# Altium schematic symbol library MCU_Cypress.SchLib: 36 symbols
Pins are listed as number, name and electrical type; pins without a type are passive.

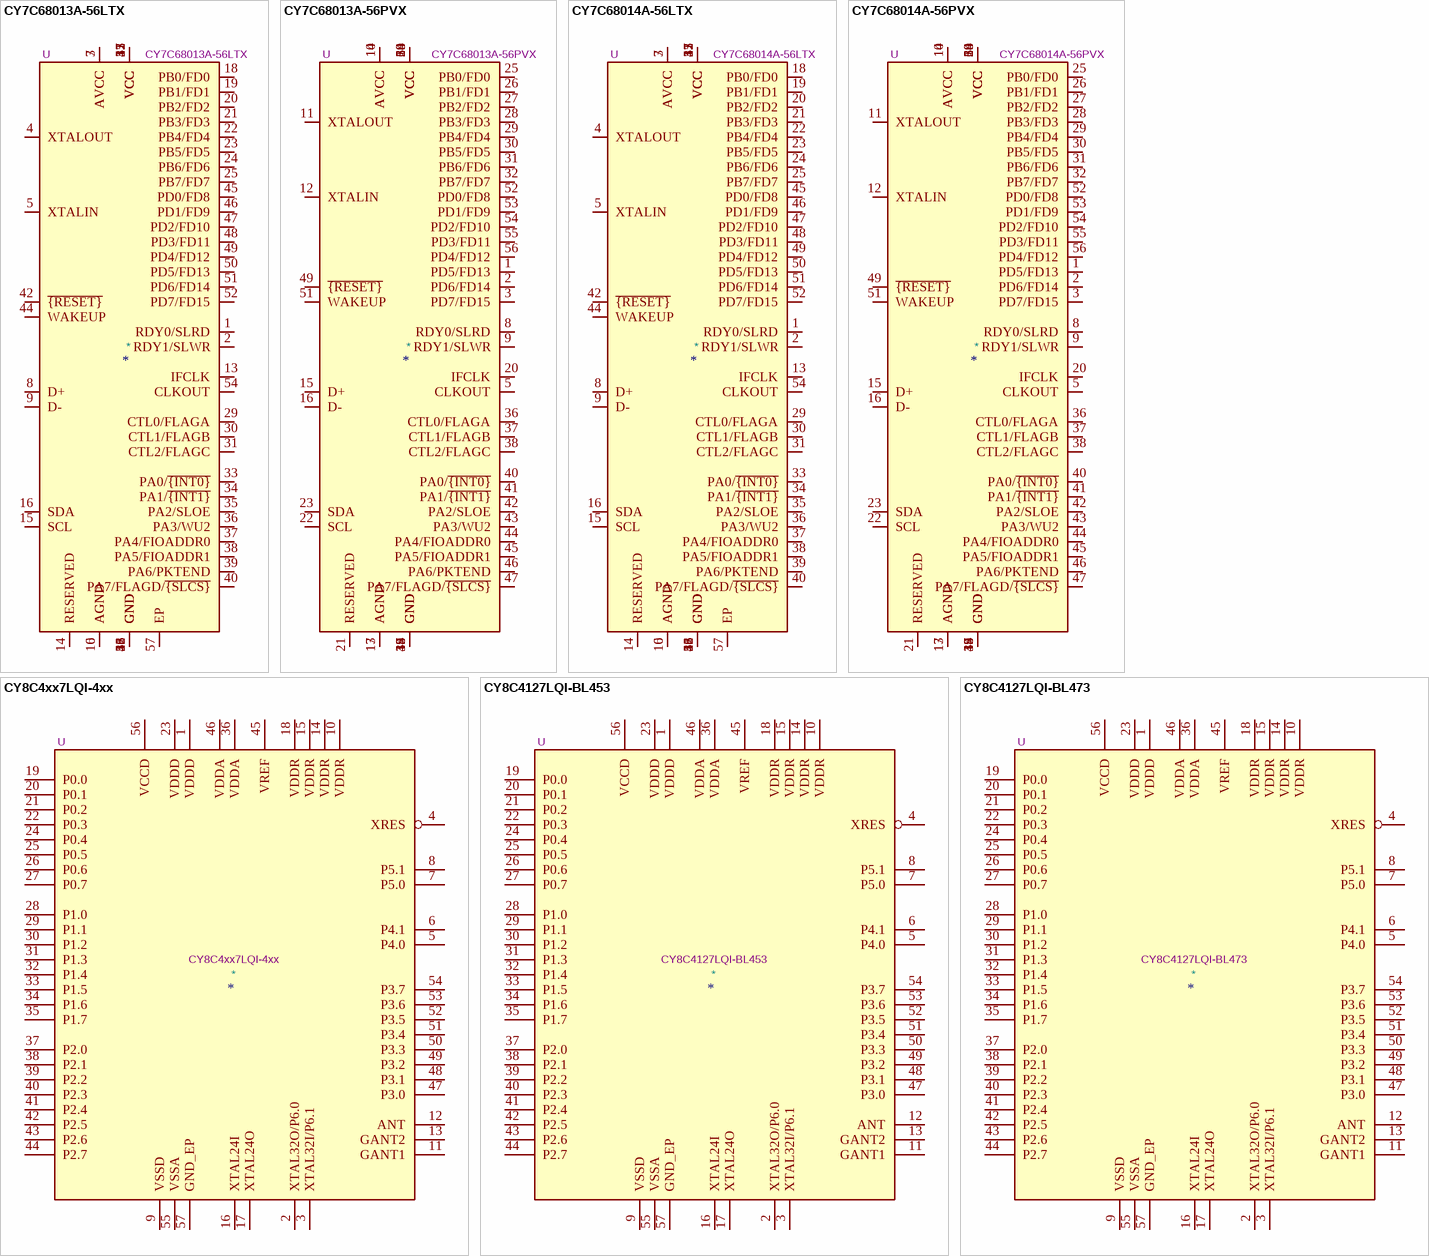
[diagram p0: symbols CY7C68013A-56LTX to CY8C4127LQI-BL473]

## CY7C68013A-56LTX
designator *  value CY7C68013A-56LTX  Reference: U
CYPRESS FX2LP USB Microcontroller, 48MHz 8051, 16KB RAM, USB 2.0, I2C, QFN-56; ki_keywords: FX2LP 8-bit USB MCU; ki_fp_filters: QFN*1EP*8x8mm*P0.5mm*; Footprint: Package_DFN_QFN:QFN-56-1EP_8x8mm_P0.5mm_EP4.5x5.2mm_ThermalVias_TopTented; Datasheet: http://www.cypress.com/file/138911/download; Description_: CYPRESS FX2LP USB Microcontroller, 48MHz 8051, 16KB RAM, USB 2.0, I2C, QFN-56
pins: 1 RDY0/SLRD, 2 RDY1/SLWR, 3 AVCC, 4 XTALOUT, 5 XTALIN, 6 AGND, 7 AVCC, 8 D+, 9 D-, 10 AGND, 11 VCC, 12 GND, 13 IFCLK, 14 RESERVED, 15 SCL, 16 SDA, 17 VCC, 18 PB0/FD0, 19 PB1/FD1, 20 PB2/FD2, 21 PB3/FD3, 22 PB4/FD4, 23 PB5/FD5, 24 PB6/FD6, 25 PB7/FD7, 26 GND, 27 VCC, 28 GND, 29 CTL0/FLAGA, 30 CTL1/FLAGB, 31 CTL2/FLAGC, 32 VCC, 33 PA0/~{{INT0}}, 34 PA1/~{{INT1}}, 35 PA2/SLOE, 36 PA3/WU2, 37 PA4/FIOADDR0, 38 PA5/FIOADDR1, 39 PA6/PKTEND, 40 PA7/FLAGD/~{{SLCS}}, 41 GND, 42 ~{{RESET}}, 43 VCC, 44 WAKEUP, 45 PD0/FD8, 46 PD1/FD9, 47 PD2/FD10, 48 PD3/FD11, 49 PD4/FD12, 50 PD5/FD13, 51 PD6/FD14, 52 PD7/FD15, 53 GND, 54 CLKOUT, 55 VCC, 56 GND, 57 EP

## CY7C68013A-56PVX
designator *  value CY7C68013A-56PVX  Reference: U
CYPRESS FX2LP USB Microcontroller, 48MHz 8051, 16KB RAM, USB 2.0, I2C, SSOP-56; ki_keywords: FX2LP 8-bit USB MCU; ki_fp_filters: SSOP*7.5x18.5mm*P0.635mm*; Footprint: Package_SO:SSOP-56_7.5x18.5mm_P0.635mm; Datasheet: http://www.cypress.com/file/138911/download; Description_: CYPRESS FX2LP USB Microcontroller, 48MHz 8051, 16KB RAM, USB 2.0, I2C, SSOP-56
pins: 1 PD5/FD13, 2 PD6/FD14, 3 PD7/FD15, 4 GND, 5 CLKOUT, 6 VCC, 7 GND, 8 RDY0/SLRD, 9 RDY1/SLWR, 10 AVCC, 11 XTALOUT, 12 XTALIN, 13 AGND, 14 AVCC, 15 D+, 16 D-, 17 AGND, 18 VCC, 19 GND, 20 IFCLK, 21 RESERVED, 22 SCL, 23 SDA, 24 VCC, 25 PB0/FD0, 26 PB1/FD1, 27 PB2/FD2, 28 PB3/FD3, 29 PB4/FD4, 30 PB5/FD5, 31 PB6/FD6, 32 PB7/FD7, 33 GND, 34 VCC, 35 GND, 36 CTL0/FLAGA, 37 CTL1/FLAGB, 38 CTL2/FLAGC, 39 VCC, 40 PA0/~{{INT0}}, 41 PA1/~{{INT1}}, 42 PA2/SLOE, 43 PA3/WU2, 44 PA4/FIOADDR0, 45 PA5/FIOADDR1, 46 PA6/PKTEND, 47 PA7/FLAGD/~{{SLCS}}, 48 GND, 49 ~{{RESET}}, 50 VCC, 51 WAKEUP, 52 PD0/FD8, 53 PD1/FD9, 54 PD2/FD10, 55 PD3/FD11, 56 PD4/FD12

## CY7C68014A-56LTX
designator *  value CY7C68014A-56LTX  Reference: U
CYPRESS FX2LP USB Microcontroller, 48MHz 8051, 16KB RAM, USB 2.0, I2C, QFN-56; ki_keywords: FX2LP 8-bit USB MCU; ki_fp_filters: QFN*1EP*8x8mm*P0.5mm*; Footprint: Package_DFN_QFN:QFN-56-1EP_8x8mm_P0.5mm_EP4.5x5.2mm_ThermalVias_TopTented; Datasheet: http://www.cypress.com/file/138911/download; Description_: CYPRESS FX2LP USB Microcontroller, 48MHz 8051, 16KB RAM, USB 2.0, I2C, QFN-56
pins: 1 RDY0/SLRD, 2 RDY1/SLWR, 3 AVCC, 4 XTALOUT, 5 XTALIN, 6 AGND, 7 AVCC, 8 D+, 9 D-, 10 AGND, 11 VCC, 12 GND, 13 IFCLK, 14 RESERVED, 15 SCL, 16 SDA, 17 VCC, 18 PB0/FD0, 19 PB1/FD1, 20 PB2/FD2, 21 PB3/FD3, 22 PB4/FD4, 23 PB5/FD5, 24 PB6/FD6, 25 PB7/FD7, 26 GND, 27 VCC, 28 GND, 29 CTL0/FLAGA, 30 CTL1/FLAGB, 31 CTL2/FLAGC, 32 VCC, 33 PA0/~{{INT0}}, 34 PA1/~{{INT1}}, 35 PA2/SLOE, 36 PA3/WU2, 37 PA4/FIOADDR0, 38 PA5/FIOADDR1, 39 PA6/PKTEND, 40 PA7/FLAGD/~{{SLCS}}, 41 GND, 42 ~{{RESET}}, 43 VCC, 44 WAKEUP, 45 PD0/FD8, 46 PD1/FD9, 47 PD2/FD10, 48 PD3/FD11, 49 PD4/FD12, 50 PD5/FD13, 51 PD6/FD14, 52 PD7/FD15, 53 GND, 54 CLKOUT, 55 VCC, 56 GND, 57 EP

## CY7C68014A-56PVX
designator *  value CY7C68014A-56PVX  Reference: U
CYPRESS FX2LP USB Microcontroller, 48MHz 8051, 16KB RAM, USB 2.0, I2C, SSOP-56; ki_keywords: FX2LP 8-bit USB MCU; ki_fp_filters: SSOP*7.5x18.5mm*P0.635mm*; Footprint: Package_SO:SSOP-56_7.5x18.5mm_P0.635mm; Datasheet: http://www.cypress.com/file/138911/download; Description_: CYPRESS FX2LP USB Microcontroller, 48MHz 8051, 16KB RAM, USB 2.0, I2C, SSOP-56
pins: 1 PD5/FD13, 2 PD6/FD14, 3 PD7/FD15, 4 GND, 5 CLKOUT, 6 VCC, 7 GND, 8 RDY0/SLRD, 9 RDY1/SLWR, 10 AVCC, 11 XTALOUT, 12 XTALIN, 13 AGND, 14 AVCC, 15 D+, 16 D-, 17 AGND, 18 VCC, 19 GND, 20 IFCLK, 21 RESERVED, 22 SCL, 23 SDA, 24 VCC, 25 PB0/FD0, 26 PB1/FD1, 27 PB2/FD2, 28 PB3/FD3, 29 PB4/FD4, 30 PB5/FD5, 31 PB6/FD6, 32 PB7/FD7, 33 GND, 34 VCC, 35 GND, 36 CTL0/FLAGA, 37 CTL1/FLAGB, 38 CTL2/FLAGC, 39 VCC, 40 PA0/~{{INT0}}, 41 PA1/~{{INT1}}, 42 PA2/SLOE, 43 PA3/WU2, 44 PA4/FIOADDR0, 45 PA5/FIOADDR1, 46 PA6/PKTEND, 47 PA7/FLAGD/~{{SLCS}}, 48 GND, 49 ~{{RESET}}, 50 VCC, 51 WAKEUP, 52 PD0/FD8, 53 PD1/FD9, 54 PD2/FD10, 55 PD3/FD11, 56 PD4/FD12

## CY8C4xx7LQI-4xx
designator *  value CY8C4xx7LQI-4xx  Reference: U
Programmable System-on-Chip With Bluetooth Low Energy, 24/48-MHz ARM® Cortex®-M0 , 56-QFN; ki_keywords: CYPRESS PSOC BLE CY8 CY8C4 ARM CORTEX M0 BLUETOOTH QFN; ki_fp_filters: QFN*1EP*7x7mm*P0.4mm*; Footprint: Package_DFN_QFN:QFN-56-1EP_7x7mm_P0.4mm_EP5.6x5.6mm; Datasheet: http://www.cypress.com/file/137466/download; Description_: Programmable System-on-Chip With Bluetooth Low Energy, 24/48-MHz ARM® Cortex®-M0 , 56-QFN
pins: 1 VDDD, 2 XTAL32O/P6.0, 3 XTAL32I/P6.1, 4 XRES, 5 P4.0, 6 P4.1, 7 P5.0, 8 P5.1, 9 VSSD, 10 VDDR, 11 GANT1, 12 ANT, 13 GANT2, 14 VDDR, 15 VDDR, 16 XTAL24I, 17 XTAL24O, 18 VDDR, 19 P0.0, 20 P0.1, 21 P0.2, 22 P0.3, 23 VDDD, 24 P0.4, 25 P0.5, 26 P0.6, 27 P0.7, 28 P1.0, 29 P1.1, 30 P1.2, 31 P1.3, 32 P1.4, 33 P1.5, 34 P1.6, 35 P1.7, 36 VDDA, 37 P2.0, 38 P2.1, 39 P2.2, 40 P2.3, 41 P2.4, 42 P2.5, 43 P2.6, 44 P2.7, 45 VREF, 46 VDDA, 47 P3.0, 48 P3.1, 49 P3.2, 50 P3.3, 51 P3.4, 52 P3.5, 53 P3.6, 54 P3.7, 55 VSSA, 56 VCCD, 57 GND_EP

## CY8C4127LQI-BL453
designator *  value CY8C4127LQI-BL453  Reference: U
56-QFN, 24-MHz ARM® Cortex®-M0, 128KB Flash, 16kB SRAM, NO UDB, CAP-SENSE W/O GESTURE, NO LCD DRIVE; ki_keywords: CYPRESS PSOC BLE CY8 CY8C4 ARM CORTEX M0 BLUETOOTH QFN; ki_fp_filters: QFN*1EP*7x7mm*P0.4mm*; Footprint: Package_DFN_QFN:QFN-56-1EP_7x7mm_P0.4mm_EP5.6x5.6mm; Datasheet: http://www.cypress.com/file/137466/download; Description_: 56-QFN, 24-MHz ARM® Cortex®-M0, 128KB Flash, 16kB SRAM, NO UDB, CAP-SENSE W/O GESTURE, NO LCD DRIVE
pins: 1 VDDD, 2 XTAL32O/P6.0, 3 XTAL32I/P6.1, 4 XRES, 5 P4.0, 6 P4.1, 7 P5.0, 8 P5.1, 9 VSSD, 10 VDDR, 11 GANT1, 12 ANT, 13 GANT2, 14 VDDR, 15 VDDR, 16 XTAL24I, 17 XTAL24O, 18 VDDR, 19 P0.0, 20 P0.1, 21 P0.2, 22 P0.3, 23 VDDD, 24 P0.4, 25 P0.5, 26 P0.6, 27 P0.7, 28 P1.0, 29 P1.1, 30 P1.2, 31 P1.3, 32 P1.4, 33 P1.5, 34 P1.6, 35 P1.7, 36 VDDA, 37 P2.0, 38 P2.1, 39 P2.2, 40 P2.3, 41 P2.4, 42 P2.5, 43 P2.6, 44 P2.7, 45 VREF, 46 VDDA, 47 P3.0, 48 P3.1, 49 P3.2, 50 P3.3, 51 P3.4, 52 P3.5, 53 P3.6, 54 P3.7, 55 VSSA, 56 VCCD, 57 GND_EP

## CY8C4127LQI-BL473
designator *  value CY8C4127LQI-BL473  Reference: U
56-QFN, 24-MHz ARM® Cortex®-M0, 128KB Flash, 16kB SRAM, NO UDB, NO CAP-SENSE, NO LCD DRIVE; ki_keywords: CYPRESS PSOC BLE CY8 CY8C4 ARM CORTEX M0 BLUETOOTH QFN; ki_fp_filters: QFN*1EP*7x7mm*P0.4mm*; Footprint: Package_DFN_QFN:QFN-56-1EP_7x7mm_P0.4mm_EP5.6x5.6mm; Datasheet: http://www.cypress.com/file/137466/download; Description_: 56-QFN, 24-MHz ARM® Cortex®-M0, 128KB Flash, 16kB SRAM, NO UDB, NO CAP-SENSE, NO LCD DRIVE
pins: 1 VDDD, 2 XTAL32O/P6.0, 3 XTAL32I/P6.1, 4 XRES, 5 P4.0, 6 P4.1, 7 P5.0, 8 P5.1, 9 VSSD, 10 VDDR, 11 GANT1, 12 ANT, 13 GANT2, 14 VDDR, 15 VDDR, 16 XTAL24I, 17 XTAL24O, 18 VDDR, 19 P0.0, 20 P0.1, 21 P0.2, 22 P0.3, 23 VDDD, 24 P0.4, 25 P0.5, 26 P0.6, 27 P0.7, 28 P1.0, 29 P1.1, 30 P1.2, 31 P1.3, 32 P1.4, 33 P1.5, 34 P1.6, 35 P1.7, 36 VDDA, 37 P2.0, 38 P2.1, 39 P2.2, 40 P2.3, 41 P2.4, 42 P2.5, 43 P2.6, 44 P2.7, 45 VREF, 46 VDDA, 47 P3.0, 48 P3.1, 49 P3.2, 50 P3.3, 51 P3.4, 52 P3.5, 53 P3.6, 54 P3.7, 55 VSSA, 56 VCCD, 57 GND_EP

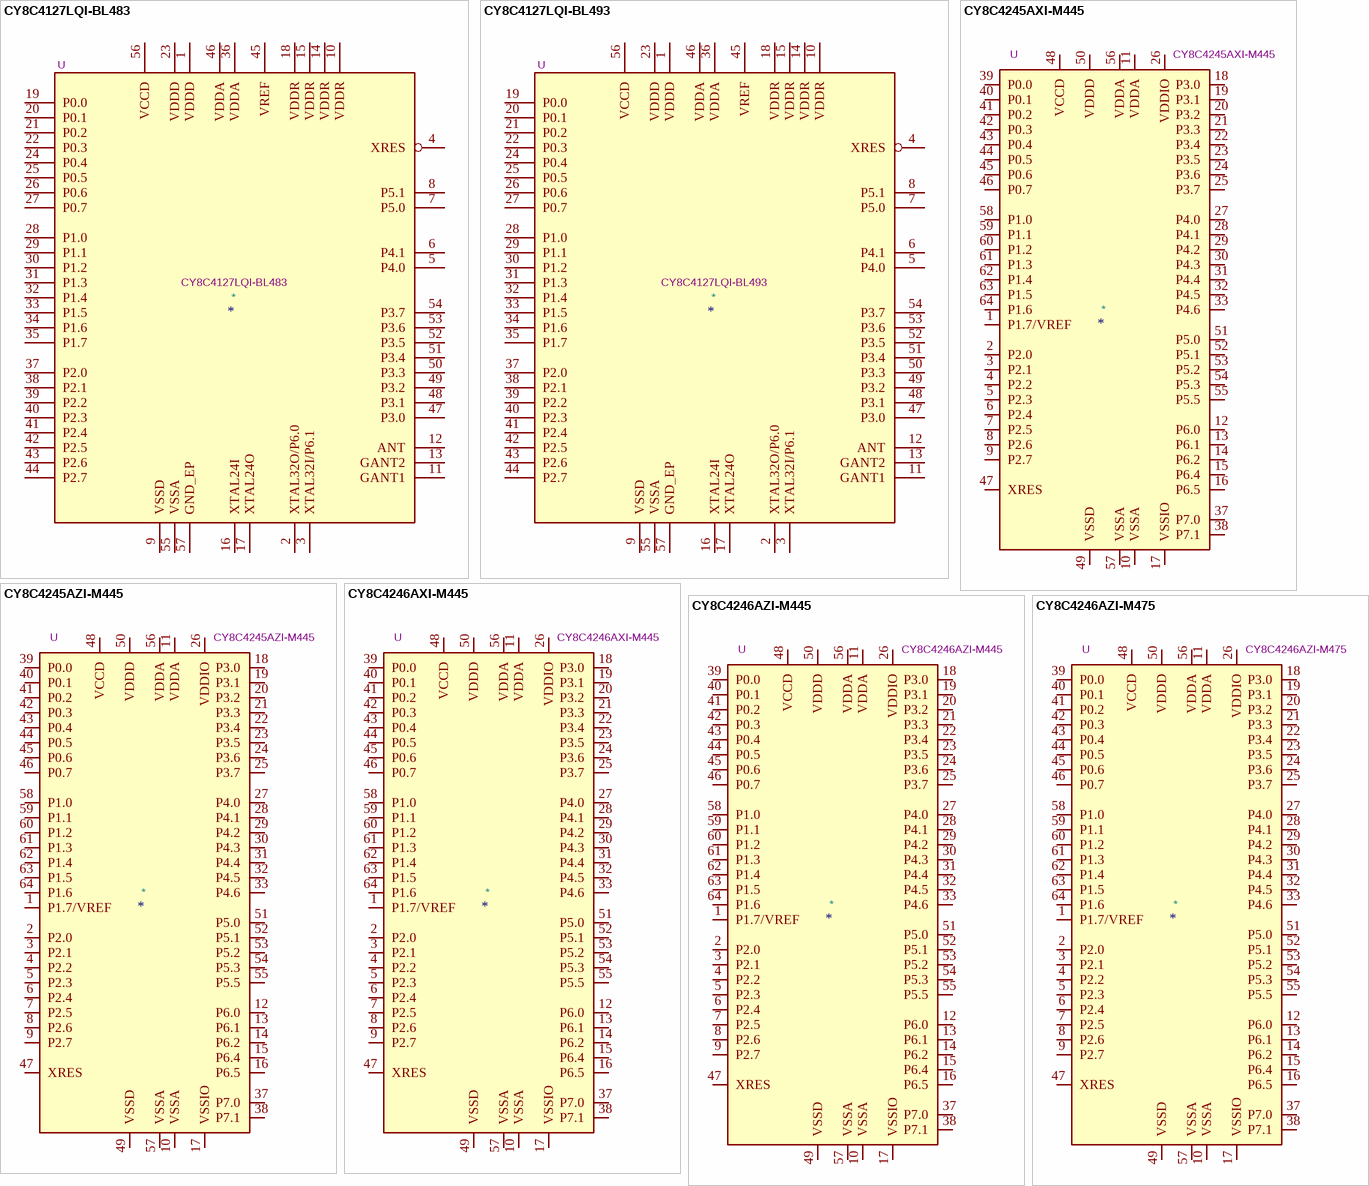
[diagram p1: symbols CY8C4127LQI-BL483 to CY8C4246AZI-M475]

## CY8C4127LQI-BL483
designator *  value CY8C4127LQI-BL483  Reference: U
56-QFN, 24-MHz ARM® Cortex®-M0, 128KB Flash, 16kB SRAM, NO UDB, CAP-SENSE W/O GESTURE, LCD DRIVE; ki_keywords: CYPRESS PSOC BLE CY8 CY8C4 ARM CORTEX M0 BLUETOOTH QFN; ki_fp_filters: QFN*1EP*7x7mm*P0.4mm*; Footprint: Package_DFN_QFN:QFN-56-1EP_7x7mm_P0.4mm_EP5.6x5.6mm; Datasheet: http://www.cypress.com/file/137466/download; Description_: 56-QFN, 24-MHz ARM® Cortex®-M0, 128KB Flash, 16kB SRAM, NO UDB, CAP-SENSE W/O GESTURE, LCD DRIVE
pins: 1 VDDD, 2 XTAL32O/P6.0, 3 XTAL32I/P6.1, 4 XRES, 5 P4.0, 6 P4.1, 7 P5.0, 8 P5.1, 9 VSSD, 10 VDDR, 11 GANT1, 12 ANT, 13 GANT2, 14 VDDR, 15 VDDR, 16 XTAL24I, 17 XTAL24O, 18 VDDR, 19 P0.0, 20 P0.1, 21 P0.2, 22 P0.3, 23 VDDD, 24 P0.4, 25 P0.5, 26 P0.6, 27 P0.7, 28 P1.0, 29 P1.1, 30 P1.2, 31 P1.3, 32 P1.4, 33 P1.5, 34 P1.6, 35 P1.7, 36 VDDA, 37 P2.0, 38 P2.1, 39 P2.2, 40 P2.3, 41 P2.4, 42 P2.5, 43 P2.6, 44 P2.7, 45 VREF, 46 VDDA, 47 P3.0, 48 P3.1, 49 P3.2, 50 P3.3, 51 P3.4, 52 P3.5, 53 P3.6, 54 P3.7, 55 VSSA, 56 VCCD, 57 GND_EP

## CY8C4127LQI-BL493
designator *  value CY8C4127LQI-BL493  Reference: U
56-QFN, 24-MHz ARM® Cortex®-M0, 128KB Flash, 16kB SRAM, NO UDB, CAP-SENSE W/ GESTURE, LCD DRIVE; ki_keywords: CYPRESS PSOC BLE CY8 CY8C4 ARM CORTEX M0 BLUETOOTH QFN; ki_fp_filters: QFN*1EP*7x7mm*P0.4mm*; Footprint: Package_DFN_QFN:QFN-56-1EP_7x7mm_P0.4mm_EP5.6x5.6mm; Datasheet: http://www.cypress.com/file/137466/download; Description_: 56-QFN, 24-MHz ARM® Cortex®-M0, 128KB Flash, 16kB SRAM, NO UDB, CAP-SENSE W/ GESTURE, LCD DRIVE
pins: 1 VDDD, 2 XTAL32O/P6.0, 3 XTAL32I/P6.1, 4 XRES, 5 P4.0, 6 P4.1, 7 P5.0, 8 P5.1, 9 VSSD, 10 VDDR, 11 GANT1, 12 ANT, 13 GANT2, 14 VDDR, 15 VDDR, 16 XTAL24I, 17 XTAL24O, 18 VDDR, 19 P0.0, 20 P0.1, 21 P0.2, 22 P0.3, 23 VDDD, 24 P0.4, 25 P0.5, 26 P0.6, 27 P0.7, 28 P1.0, 29 P1.1, 30 P1.2, 31 P1.3, 32 P1.4, 33 P1.5, 34 P1.6, 35 P1.7, 36 VDDA, 37 P2.0, 38 P2.1, 39 P2.2, 40 P2.3, 41 P2.4, 42 P2.5, 43 P2.6, 44 P2.7, 45 VREF, 46 VDDA, 47 P3.0, 48 P3.1, 49 P3.2, 50 P3.3, 51 P3.4, 52 P3.5, 53 P3.6, 54 P3.7, 55 VSSA, 56 VCCD, 57 GND_EP

## CY8C4245AXI-M445
designator *  value CY8C4245AXI-M445  Reference: U
PSoC 4200M series, 48MHz CPU, 32KB Flash, 4KB SRAM, 64-TQFP; ki_keywords: Cypress Microcontroller Arm CapSense LCD; ki_fp_filters: TQFP*14x14mm*P0.8mm*; Footprint: Package_QFP:TQFP-64_14x14mm_P0.8mm; Datasheet: https://www.cypress.com/file/139956/download; Description_: PSoC 4200M series, 48MHz CPU, 32KB Flash, 4KB SRAM, 64-TQFP
pins: 1 P1.7/VREF, 2 P2.0, 3 P2.1, 4 P2.2, 5 P2.3, 6 P2.4, 7 P2.5, 8 P2.6, 9 P2.7, 10 VSSA, 11 VDDA, 12 P6.0, 13 P6.1, 14 P6.2, 15 P6.4, 16 P6.5, 17 VSSIO, 18 P3.0, 19 P3.1, 20 P3.2, 21 P3.3, 22 P3.4, 23 P3.5, 24 P3.6, 25 P3.7, 26 VDDIO, 27 P4.0, 28 P4.1, 29 P4.2, 30 P4.3, 31 P4.4, 32 P4.5, 33 P4.6, 37 P7.0, 38 P7.1, 39 P0.0, 40 P0.1, 41 P0.2, 42 P0.3, 43 P0.4, 44 P0.5, 45 P0.6, 46 P0.7, 47 XRES, 48 VCCD, 49 VSSD, 50 VDDD, 51 P5.0, 52 P5.1, 53 P5.2, 54 P5.3, 55 P5.5, 56 VDDA, 57 VSSA, 58 P1.0, 59 P1.1, 60 P1.2, 61 P1.3, 62 P1.4, 63 P1.5, 64 P1.6

## CY8C4245AZI-M445
designator *  value CY8C4245AZI-M445  Reference: U
PSoC 4200M series, 48MHz CPU, 32KB Flash, 4KB SRAM, 64-TQFP; ki_keywords: Cypress Microcontroller Arm CapSense LCD; ki_fp_filters: TQFP*10x10mm*P0.5mm*; Footprint: Package_QFP:TQFP-64_10x10mm_P0.5mm; Datasheet: https://www.cypress.com/file/139956/download; Description_: PSoC 4200M series, 48MHz CPU, 32KB Flash, 4KB SRAM, 64-TQFP
pins: 1 P1.7/VREF, 2 P2.0, 3 P2.1, 4 P2.2, 5 P2.3, 6 P2.4, 7 P2.5, 8 P2.6, 9 P2.7, 10 VSSA, 11 VDDA, 12 P6.0, 13 P6.1, 14 P6.2, 15 P6.4, 16 P6.5, 17 VSSIO, 18 P3.0, 19 P3.1, 20 P3.2, 21 P3.3, 22 P3.4, 23 P3.5, 24 P3.6, 25 P3.7, 26 VDDIO, 27 P4.0, 28 P4.1, 29 P4.2, 30 P4.3, 31 P4.4, 32 P4.5, 33 P4.6, 37 P7.0, 38 P7.1, 39 P0.0, 40 P0.1, 41 P0.2, 42 P0.3, 43 P0.4, 44 P0.5, 45 P0.6, 46 P0.7, 47 XRES, 48 VCCD, 49 VSSD, 50 VDDD, 51 P5.0, 52 P5.1, 53 P5.2, 54 P5.3, 55 P5.5, 56 VDDA, 57 VSSA, 58 P1.0, 59 P1.1, 60 P1.2, 61 P1.3, 62 P1.4, 63 P1.5, 64 P1.6

## CY8C4246AXI-M445
designator *  value CY8C4246AXI-M445  Reference: U
PSoC 4200M series, 48MHz CPU, 64KB Flash, 8KB SRAM, 64-TQFP; ki_keywords: Cypress Microcontroller Arm CapSense LCD; ki_fp_filters: TQFP*14x14mm*P0.8mm*; Footprint: Package_QFP:TQFP-64_14x14mm_P0.8mm; Datasheet: https://www.cypress.com/file/139956/download; Description_: PSoC 4200M series, 48MHz CPU, 64KB Flash, 8KB SRAM, 64-TQFP
pins: 1 P1.7/VREF, 2 P2.0, 3 P2.1, 4 P2.2, 5 P2.3, 6 P2.4, 7 P2.5, 8 P2.6, 9 P2.7, 10 VSSA, 11 VDDA, 12 P6.0, 13 P6.1, 14 P6.2, 15 P6.4, 16 P6.5, 17 VSSIO, 18 P3.0, 19 P3.1, 20 P3.2, 21 P3.3, 22 P3.4, 23 P3.5, 24 P3.6, 25 P3.7, 26 VDDIO, 27 P4.0, 28 P4.1, 29 P4.2, 30 P4.3, 31 P4.4, 32 P4.5, 33 P4.6, 37 P7.0, 38 P7.1, 39 P0.0, 40 P0.1, 41 P0.2, 42 P0.3, 43 P0.4, 44 P0.5, 45 P0.6, 46 P0.7, 47 XRES, 48 VCCD, 49 VSSD, 50 VDDD, 51 P5.0, 52 P5.1, 53 P5.2, 54 P5.3, 55 P5.5, 56 VDDA, 57 VSSA, 58 P1.0, 59 P1.1, 60 P1.2, 61 P1.3, 62 P1.4, 63 P1.5, 64 P1.6

## CY8C4246AZI-M445
designator *  value CY8C4246AZI-M445  Reference: U
PSoC 4200M series, 48MHz CPU, 64KB Flash, 8KB SRAM, 64-TQFP; ki_keywords: Cypress Microcontroller Arm CapSense LCD; ki_fp_filters: TQFP*10x10mm*P0.5mm*; Footprint: Package_QFP:TQFP-64_10x10mm_P0.5mm; Datasheet: https://www.cypress.com/file/139956/download; Description_: PSoC 4200M series, 48MHz CPU, 64KB Flash, 8KB SRAM, 64-TQFP
pins: 1 P1.7/VREF, 2 P2.0, 3 P2.1, 4 P2.2, 5 P2.3, 6 P2.4, 7 P2.5, 8 P2.6, 9 P2.7, 10 VSSA, 11 VDDA, 12 P6.0, 13 P6.1, 14 P6.2, 15 P6.4, 16 P6.5, 17 VSSIO, 18 P3.0, 19 P3.1, 20 P3.2, 21 P3.3, 22 P3.4, 23 P3.5, 24 P3.6, 25 P3.7, 26 VDDIO, 27 P4.0, 28 P4.1, 29 P4.2, 30 P4.3, 31 P4.4, 32 P4.5, 33 P4.6, 37 P7.0, 38 P7.1, 39 P0.0, 40 P0.1, 41 P0.2, 42 P0.3, 43 P0.4, 44 P0.5, 45 P0.6, 46 P0.7, 47 XRES, 48 VCCD, 49 VSSD, 50 VDDD, 51 P5.0, 52 P5.1, 53 P5.2, 54 P5.3, 55 P5.5, 56 VDDA, 57 VSSA, 58 P1.0, 59 P1.1, 60 P1.2, 61 P1.3, 62 P1.4, 63 P1.5, 64 P1.6

## CY8C4246AZI-M475
designator *  value CY8C4246AZI-M475  Reference: U
PSoC 4200M series, 48MHz CPU, 64KB Flash, 8KB SRAM, 64-TQFP; ki_keywords: Cypress Microcontroller Arm IDAC; ki_fp_filters: TQFP*10x10mm*P0.5mm*; Footprint: Package_QFP:TQFP-64_10x10mm_P0.5mm; Datasheet: https://www.cypress.com/file/139956/download; Description_: PSoC 4200M series, 48MHz CPU, 64KB Flash, 8KB SRAM, 64-TQFP
pins: 1 P1.7/VREF, 2 P2.0, 3 P2.1, 4 P2.2, 5 P2.3, 6 P2.4, 7 P2.5, 8 P2.6, 9 P2.7, 10 VSSA, 11 VDDA, 12 P6.0, 13 P6.1, 14 P6.2, 15 P6.4, 16 P6.5, 17 VSSIO, 18 P3.0, 19 P3.1, 20 P3.2, 21 P3.3, 22 P3.4, 23 P3.5, 24 P3.6, 25 P3.7, 26 VDDIO, 27 P4.0, 28 P4.1, 29 P4.2, 30 P4.3, 31 P4.4, 32 P4.5, 33 P4.6, 37 P7.0, 38 P7.1, 39 P0.0, 40 P0.1, 41 P0.2, 42 P0.3, 43 P0.4, 44 P0.5, 45 P0.6, 46 P0.7, 47 XRES, 48 VCCD, 49 VSSD, 50 VDDD, 51 P5.0, 52 P5.1, 53 P5.2, 54 P5.3, 55 P5.5, 56 VDDA, 57 VSSA, 58 P1.0, 59 P1.1, 60 P1.2, 61 P1.3, 62 P1.4, 63 P1.5, 64 P1.6

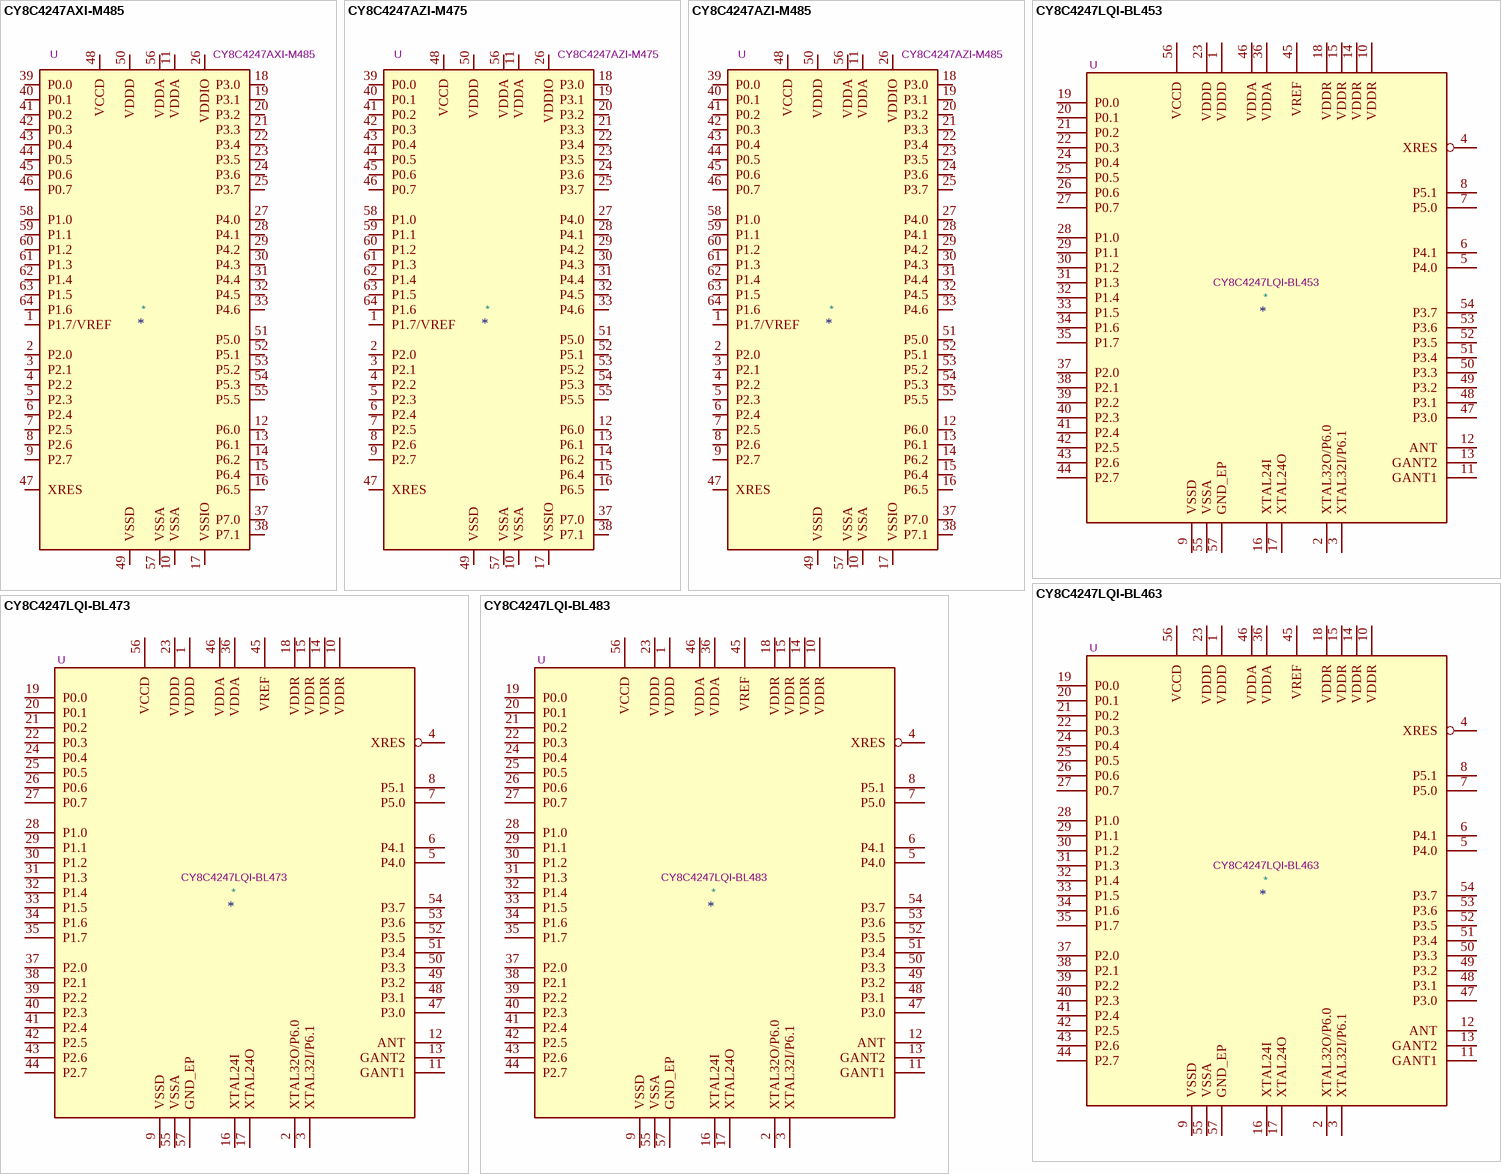
[diagram p2: symbols CY8C4247AXI-M485 to CY8C4247LQI-BL483]

## CY8C4247AXI-M485
designator *  value CY8C4247AXI-M485  Reference: U
PSoC 4200M series, 48MHz CPU, 128KB Flash, 16KB SRAM, 64-TQFP; ki_keywords: Cypress Microcontroller Arm CapSense IDAC LCD CAN; ki_fp_filters: TQFP*14x14mm*P0.8mm*; Footprint: Package_QFP:TQFP-64_14x14mm_P0.8mm; Datasheet: https://www.cypress.com/file/139956/download; Description_: PSoC 4200M series, 48MHz CPU, 128KB Flash, 16KB SRAM, 64-TQFP
pins: 1 P1.7/VREF, 2 P2.0, 3 P2.1, 4 P2.2, 5 P2.3, 6 P2.4, 7 P2.5, 8 P2.6, 9 P2.7, 10 VSSA, 11 VDDA, 12 P6.0, 13 P6.1, 14 P6.2, 15 P6.4, 16 P6.5, 17 VSSIO, 18 P3.0, 19 P3.1, 20 P3.2, 21 P3.3, 22 P3.4, 23 P3.5, 24 P3.6, 25 P3.7, 26 VDDIO, 27 P4.0, 28 P4.1, 29 P4.2, 30 P4.3, 31 P4.4, 32 P4.5, 33 P4.6, 37 P7.0, 38 P7.1, 39 P0.0, 40 P0.1, 41 P0.2, 42 P0.3, 43 P0.4, 44 P0.5, 45 P0.6, 46 P0.7, 47 XRES, 48 VCCD, 49 VSSD, 50 VDDD, 51 P5.0, 52 P5.1, 53 P5.2, 54 P5.3, 55 P5.5, 56 VDDA, 57 VSSA, 58 P1.0, 59 P1.1, 60 P1.2, 61 P1.3, 62 P1.4, 63 P1.5, 64 P1.6

## CY8C4247AZI-M475
designator *  value CY8C4247AZI-M475  Reference: U
PSoC 4200M series, 48MHz CPU, 128KB Flash, 16KB SRAM, 64-TQFP; ki_keywords: Cypress Microcontroller Arm IDAC; ki_fp_filters: TQFP*10x10mm*P0.5mm*; Footprint: Package_QFP:TQFP-64_10x10mm_P0.5mm; Datasheet: https://www.cypress.com/file/139956/download; Description_: PSoC 4200M series, 48MHz CPU, 128KB Flash, 16KB SRAM, 64-TQFP
pins: 1 P1.7/VREF, 2 P2.0, 3 P2.1, 4 P2.2, 5 P2.3, 6 P2.4, 7 P2.5, 8 P2.6, 9 P2.7, 10 VSSA, 11 VDDA, 12 P6.0, 13 P6.1, 14 P6.2, 15 P6.4, 16 P6.5, 17 VSSIO, 18 P3.0, 19 P3.1, 20 P3.2, 21 P3.3, 22 P3.4, 23 P3.5, 24 P3.6, 25 P3.7, 26 VDDIO, 27 P4.0, 28 P4.1, 29 P4.2, 30 P4.3, 31 P4.4, 32 P4.5, 33 P4.6, 37 P7.0, 38 P7.1, 39 P0.0, 40 P0.1, 41 P0.2, 42 P0.3, 43 P0.4, 44 P0.5, 45 P0.6, 46 P0.7, 47 XRES, 48 VCCD, 49 VSSD, 50 VDDD, 51 P5.0, 52 P5.1, 53 P5.2, 54 P5.3, 55 P5.5, 56 VDDA, 57 VSSA, 58 P1.0, 59 P1.1, 60 P1.2, 61 P1.3, 62 P1.4, 63 P1.5, 64 P1.6

## CY8C4247AZI-M485
designator *  value CY8C4247AZI-M485  Reference: U
PSoC 4200M series, 48MHz CPU, 128KB Flash, 16KB SRAM, 64-TQFP; ki_keywords: Cypress Microcontroller Arm CapSense IDAC LCD CAN; ki_fp_filters: TQFP*10x10mm*P0.5mm*; Footprint: Package_QFP:TQFP-64_10x10mm_P0.5mm; Datasheet: https://www.cypress.com/file/139956/download; Description_: PSoC 4200M series, 48MHz CPU, 128KB Flash, 16KB SRAM, 64-TQFP
pins: 1 P1.7/VREF, 2 P2.0, 3 P2.1, 4 P2.2, 5 P2.3, 6 P2.4, 7 P2.5, 8 P2.6, 9 P2.7, 10 VSSA, 11 VDDA, 12 P6.0, 13 P6.1, 14 P6.2, 15 P6.4, 16 P6.5, 17 VSSIO, 18 P3.0, 19 P3.1, 20 P3.2, 21 P3.3, 22 P3.4, 23 P3.5, 24 P3.6, 25 P3.7, 26 VDDIO, 27 P4.0, 28 P4.1, 29 P4.2, 30 P4.3, 31 P4.4, 32 P4.5, 33 P4.6, 37 P7.0, 38 P7.1, 39 P0.0, 40 P0.1, 41 P0.2, 42 P0.3, 43 P0.4, 44 P0.5, 45 P0.6, 46 P0.7, 47 XRES, 48 VCCD, 49 VSSD, 50 VDDD, 51 P5.0, 52 P5.1, 53 P5.2, 54 P5.3, 55 P5.5, 56 VDDA, 57 VSSA, 58 P1.0, 59 P1.1, 60 P1.2, 61 P1.3, 62 P1.4, 63 P1.5, 64 P1.6

## CY8C4247LQI-BL453
designator *  value CY8C4247LQI-BL453  Reference: U
56-QFN, 48-MHz ARM® Cortex®-M0, 128KB Flash, 16kB SRAM, 4 UDB, CAP-SENSE W/O GESTURE, NO LCD DRIVE; ki_keywords: CYPRESS PSOC BLE CY8 CY8C4 ARM CORTEX M0 BLUETOOTH QFN; ki_fp_filters: QFN*1EP*7x7mm*P0.4mm*; Footprint: Package_DFN_QFN:QFN-56-1EP_7x7mm_P0.4mm_EP5.6x5.6mm; Datasheet: http://www.cypress.com/file/137466/download; Description_: 56-QFN, 48-MHz ARM® Cortex®-M0, 128KB Flash, 16kB SRAM, 4 UDB, CAP-SENSE W/O GESTURE, NO LCD DRIVE
pins: 1 VDDD, 2 XTAL32O/P6.0, 3 XTAL32I/P6.1, 4 XRES, 5 P4.0, 6 P4.1, 7 P5.0, 8 P5.1, 9 VSSD, 10 VDDR, 11 GANT1, 12 ANT, 13 GANT2, 14 VDDR, 15 VDDR, 16 XTAL24I, 17 XTAL24O, 18 VDDR, 19 P0.0, 20 P0.1, 21 P0.2, 22 P0.3, 23 VDDD, 24 P0.4, 25 P0.5, 26 P0.6, 27 P0.7, 28 P1.0, 29 P1.1, 30 P1.2, 31 P1.3, 32 P1.4, 33 P1.5, 34 P1.6, 35 P1.7, 36 VDDA, 37 P2.0, 38 P2.1, 39 P2.2, 40 P2.3, 41 P2.4, 42 P2.5, 43 P2.6, 44 P2.7, 45 VREF, 46 VDDA, 47 P3.0, 48 P3.1, 49 P3.2, 50 P3.3, 51 P3.4, 52 P3.5, 53 P3.6, 54 P3.7, 55 VSSA, 56 VCCD, 57 GND_EP

## CY8C4247LQI-BL463
designator *  value CY8C4247LQI-BL463  Reference: U
56-QFN, 48-MHz ARM® Cortex®-M0, 128KB Flash, 16kB SRAM, 4 UDB, NO CAP-SENSE, LCD DRIVE; ki_keywords: CYPRESS PSOC BLE CY8 CY8C4 ARM CORTEX M0 BLUETOOTH QFN; ki_fp_filters: QFN*1EP*7x7mm*P0.4mm*; Footprint: Package_DFN_QFN:QFN-56-1EP_7x7mm_P0.4mm_EP5.6x5.6mm; Datasheet: http://www.cypress.com/file/137466/download; Description_: 56-QFN, 48-MHz ARM® Cortex®-M0, 128KB Flash, 16kB SRAM, 4 UDB, NO CAP-SENSE, LCD DRIVE
pins: 1 VDDD, 2 XTAL32O/P6.0, 3 XTAL32I/P6.1, 4 XRES, 5 P4.0, 6 P4.1, 7 P5.0, 8 P5.1, 9 VSSD, 10 VDDR, 11 GANT1, 12 ANT, 13 GANT2, 14 VDDR, 15 VDDR, 16 XTAL24I, 17 XTAL24O, 18 VDDR, 19 P0.0, 20 P0.1, 21 P0.2, 22 P0.3, 23 VDDD, 24 P0.4, 25 P0.5, 26 P0.6, 27 P0.7, 28 P1.0, 29 P1.1, 30 P1.2, 31 P1.3, 32 P1.4, 33 P1.5, 34 P1.6, 35 P1.7, 36 VDDA, 37 P2.0, 38 P2.1, 39 P2.2, 40 P2.3, 41 P2.4, 42 P2.5, 43 P2.6, 44 P2.7, 45 VREF, 46 VDDA, 47 P3.0, 48 P3.1, 49 P3.2, 50 P3.3, 51 P3.4, 52 P3.5, 53 P3.6, 54 P3.7, 55 VSSA, 56 VCCD, 57 GND_EP

## CY8C4247LQI-BL473
designator *  value CY8C4247LQI-BL473  Reference: U
56-QFN, 48-MHz ARM® Cortex®-M0, 128KB Flash, 16kB SRAM, 4 UDB, NO CAP-SENSE, NO LCD DRIVE; ki_keywords: CYPRESS PSOC BLE CY8 CY8C4 ARM CORTEX M0 BLUETOOTH QFN; ki_fp_filters: QFN*1EP*7x7mm*P0.4mm*; Footprint: Package_DFN_QFN:QFN-56-1EP_7x7mm_P0.4mm_EP5.6x5.6mm; Datasheet: http://www.cypress.com/file/137466/download; Description_: 56-QFN, 48-MHz ARM® Cortex®-M0, 128KB Flash, 16kB SRAM, 4 UDB, NO CAP-SENSE, NO LCD DRIVE
pins: 1 VDDD, 2 XTAL32O/P6.0, 3 XTAL32I/P6.1, 4 XRES, 5 P4.0, 6 P4.1, 7 P5.0, 8 P5.1, 9 VSSD, 10 VDDR, 11 GANT1, 12 ANT, 13 GANT2, 14 VDDR, 15 VDDR, 16 XTAL24I, 17 XTAL24O, 18 VDDR, 19 P0.0, 20 P0.1, 21 P0.2, 22 P0.3, 23 VDDD, 24 P0.4, 25 P0.5, 26 P0.6, 27 P0.7, 28 P1.0, 29 P1.1, 30 P1.2, 31 P1.3, 32 P1.4, 33 P1.5, 34 P1.6, 35 P1.7, 36 VDDA, 37 P2.0, 38 P2.1, 39 P2.2, 40 P2.3, 41 P2.4, 42 P2.5, 43 P2.6, 44 P2.7, 45 VREF, 46 VDDA, 47 P3.0, 48 P3.1, 49 P3.2, 50 P3.3, 51 P3.4, 52 P3.5, 53 P3.6, 54 P3.7, 55 VSSA, 56 VCCD, 57 GND_EP

## CY8C4247LQI-BL483
designator *  value CY8C4247LQI-BL483  Reference: U
56-QFN, 48-MHz ARM® Cortex®-M0, 128KB Flash, 16kB SRAM, 4 UDB, CAP-SENSE W/O GESTURES, LCD DRIVE; ki_keywords: CYPRESS PSOC BLE CY8 CY8C4 ARM CORTEX M0 BLUETOOTH QFN; ki_fp_filters: QFN*1EP*7x7mm*P0.4mm*; Footprint: Package_DFN_QFN:QFN-56-1EP_7x7mm_P0.4mm_EP5.6x5.6mm; Datasheet: http://www.cypress.com/file/137466/download; Description_: 56-QFN, 48-MHz ARM® Cortex®-M0, 128KB Flash, 16kB SRAM, 4 UDB, CAP-SENSE W/O GESTURES, LCD DRIVE
pins: 1 VDDD, 2 XTAL32O/P6.0, 3 XTAL32I/P6.1, 4 XRES, 5 P4.0, 6 P4.1, 7 P5.0, 8 P5.1, 9 VSSD, 10 VDDR, 11 GANT1, 12 ANT, 13 GANT2, 14 VDDR, 15 VDDR, 16 XTAL24I, 17 XTAL24O, 18 VDDR, 19 P0.0, 20 P0.1, 21 P0.2, 22 P0.3, 23 VDDD, 24 P0.4, 25 P0.5, 26 P0.6, 27 P0.7, 28 P1.0, 29 P1.1, 30 P1.2, 31 P1.3, 32 P1.4, 33 P1.5, 34 P1.6, 35 P1.7, 36 VDDA, 37 P2.0, 38 P2.1, 39 P2.2, 40 P2.3, 41 P2.4, 42 P2.5, 43 P2.6, 44 P2.7, 45 VREF, 46 VDDA, 47 P3.0, 48 P3.1, 49 P3.2, 50 P3.3, 51 P3.4, 52 P3.5, 53 P3.6, 54 P3.7, 55 VSSA, 56 VCCD, 57 GND_EP

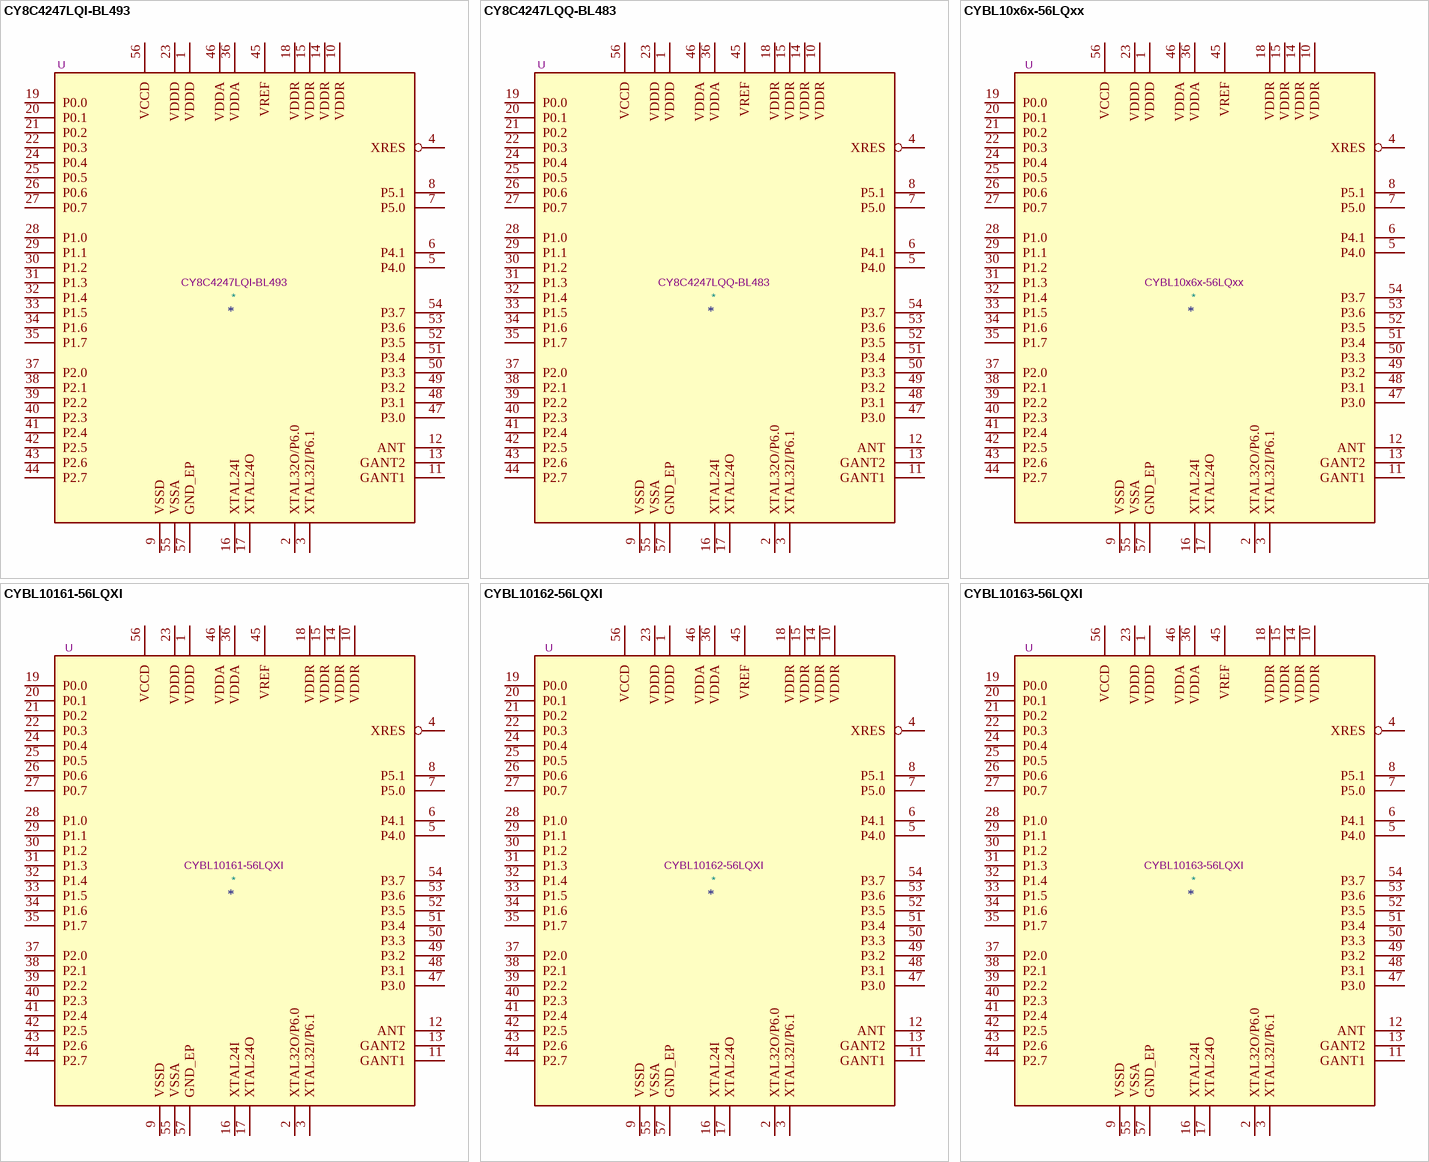
[diagram p3: symbols CY8C4247LQI-BL493 to CYBL10163-56LQXI]

## CY8C4247LQI-BL493
designator *  value CY8C4247LQI-BL493  Reference: U
56-QFN, 48-MHz ARM® Cortex®-M0, 128KB Flash, 16kB SRAM, NO UDB, CAP-SENSE W/ GESTURE, LCD DRIVE; ki_keywords: CYPRESS PSOC BLE CY8 CY8C4 ARM CORTEX M0 BLUETOOTH QFN; ki_fp_filters: QFN*1EP*7x7mm*P0.4mm*; Footprint: Package_DFN_QFN:QFN-56-1EP_7x7mm_P0.4mm_EP5.6x5.6mm; Datasheet: http://www.cypress.com/file/137466/download; Description_: 56-QFN, 48-MHz ARM® Cortex®-M0, 128KB Flash, 16kB SRAM, NO UDB, CAP-SENSE W/ GESTURE, LCD DRIVE
pins: 1 VDDD, 2 XTAL32O/P6.0, 3 XTAL32I/P6.1, 4 XRES, 5 P4.0, 6 P4.1, 7 P5.0, 8 P5.1, 9 VSSD, 10 VDDR, 11 GANT1, 12 ANT, 13 GANT2, 14 VDDR, 15 VDDR, 16 XTAL24I, 17 XTAL24O, 18 VDDR, 19 P0.0, 20 P0.1, 21 P0.2, 22 P0.3, 23 VDDD, 24 P0.4, 25 P0.5, 26 P0.6, 27 P0.7, 28 P1.0, 29 P1.1, 30 P1.2, 31 P1.3, 32 P1.4, 33 P1.5, 34 P1.6, 35 P1.7, 36 VDDA, 37 P2.0, 38 P2.1, 39 P2.2, 40 P2.3, 41 P2.4, 42 P2.5, 43 P2.6, 44 P2.7, 45 VREF, 46 VDDA, 47 P3.0, 48 P3.1, 49 P3.2, 50 P3.3, 51 P3.4, 52 P3.5, 53 P3.6, 54 P3.7, 55 VSSA, 56 VCCD, 57 GND_EP

## CY8C4247LQQ-BL483
designator *  value CY8C4247LQQ-BL483  Reference: U
ENGR_SAMPLE,  56-QFN, 48-MHz ARM® Cortex®-M0, 128KB Flash, 16kB SRAM, NO UDB, CAP-SENSE W/ GESTURE, LCD DRIVE; ki_keywords: CYPRESS PSOC BLE CY8 CY8C4 ARM CORTEX M0 BLUETOOTH QFN; ki_fp_filters: QFN*1EP*7x7mm*P0.4mm*; Footprint: Package_DFN_QFN:QFN-56-1EP_7x7mm_P0.4mm_EP5.6x5.6mm; Datasheet: http://www.cypress.com/file/137466/download; Description_: ENGR_SAMPLE,  56-QFN, 48-MHz ARM® Cortex®-M0, 128KB Flash, 16kB SRAM, NO UDB, CAP-SENSE W/ GESTURE, LCD DRIVE
pins: 1 VDDD, 2 XTAL32O/P6.0, 3 XTAL32I/P6.1, 4 XRES, 5 P4.0, 6 P4.1, 7 P5.0, 8 P5.1, 9 VSSD, 10 VDDR, 11 GANT1, 12 ANT, 13 GANT2, 14 VDDR, 15 VDDR, 16 XTAL24I, 17 XTAL24O, 18 VDDR, 19 P0.0, 20 P0.1, 21 P0.2, 22 P0.3, 23 VDDD, 24 P0.4, 25 P0.5, 26 P0.6, 27 P0.7, 28 P1.0, 29 P1.1, 30 P1.2, 31 P1.3, 32 P1.4, 33 P1.5, 34 P1.6, 35 P1.7, 36 VDDA, 37 P2.0, 38 P2.1, 39 P2.2, 40 P2.3, 41 P2.4, 42 P2.5, 43 P2.6, 44 P2.7, 45 VREF, 46 VDDA, 47 P3.0, 48 P3.1, 49 P3.2, 50 P3.3, 51 P3.4, 52 P3.5, 53 P3.6, 54 P3.7, 55 VSSA, 56 VCCD, 57 GND_EP

## CYBL10x6x-56LQxx
designator *  value CYBL10x6x-56LQxx  Reference: U
Programmable Radio-on-Chip With Bluetooth Low Energy, 48-MHz ARM® Cortex®-M0 , 56-QFN; ki_keywords: CYPRESS PROC BLE CY8BL ARM CORTEX M0 BLUETOOTH QFN; ki_fp_filters: QFN*1EP*7x7mm*P0.4mm*; Footprint: Package_DFN_QFN:QFN-56-1EP_7x7mm_P0.4mm_EP5.6x5.6mm; Datasheet: http://www.cypress.com/documentation/datasheets/cybl10x6x-family-datasheet-programmable-radio-chip-bluetooth-low-energy; Description_: Programmable Radio-on-Chip With Bluetooth Low Energy, 48-MHz ARM® Cortex®-M0 , 56-QFN
pins: 1 VDDD, 2 XTAL32O/P6.0, 3 XTAL32I/P6.1, 4 XRES, 5 P4.0, 6 P4.1, 7 P5.0, 8 P5.1, 9 VSSD, 10 VDDR, 11 GANT1, 12 ANT, 13 GANT2, 14 VDDR, 15 VDDR, 16 XTAL24I, 17 XTAL24O, 18 VDDR, 19 P0.0, 20 P0.1, 21 P0.2, 22 P0.3, 23 VDDD, 24 P0.4, 25 P0.5, 26 P0.6, 27 P0.7, 28 P1.0, 29 P1.1, 30 P1.2, 31 P1.3, 32 P1.4, 33 P1.5, 34 P1.6, 35 P1.7, 36 VDDA, 37 P2.0, 38 P2.1, 39 P2.2, 40 P2.3, 41 P2.4, 42 P2.5, 43 P2.6, 44 P2.7, 45 VREF, 46 VDDA, 47 P3.0, 48 P3.1, 49 P3.2, 50 P3.3, 51 P3.4, 52 P3.5, 53 P3.6, 54 P3.7, 55 VSSA, 56 VCCD, 57 GND_EP

## CYBL10161-56LQXI
designator *  value CYBL10161-56LQXI  Reference: U
56-QFN, 48-MHz ARM® Cortex®-M0, 128KB Flash, 16kB SRAM, BLE 4.1, NO CAP-SENSE, 1 SCB, 2 TCPWM, NO I2S, NO PWM , NO LCD, 1MSPS 12-BIT SAR; ki_keywords: CYPRESS PROC BLE CY8BL ARM CORTEX M0 BLUETOOTH QFN; ki_fp_filters: QFN*1EP*7x7mm*P0.4mm*; Footprint: Package_DFN_QFN:QFN-56-1EP_7x7mm_P0.4mm_EP5.6x5.6mm; Datasheet: http://www.cypress.com/documentation/datasheets/cybl10x6x-family-datasheet-programmable-radio-chip-bluetooth-low-energy; Description_: 56-QFN, 48-MHz ARM® Cortex®-M0, 128KB Flash, 16kB SRAM, BLE 4.1, NO CAP-SENSE, 1 SCB, 2 TCPWM, NO I2S, NO PWM , NO LCD, 1MSPS 12-BIT SAR
pins: 1 VDDD, 2 XTAL32O/P6.0, 3 XTAL32I/P6.1, 4 XRES, 5 P4.0, 6 P4.1, 7 P5.0, 8 P5.1, 9 VSSD, 10 VDDR, 11 GANT1, 12 ANT, 13 GANT2, 14 VDDR, 15 VDDR, 16 XTAL24I, 17 XTAL24O, 18 VDDR, 19 P0.0, 20 P0.1, 21 P0.2, 22 P0.3, 23 VDDD, 24 P0.4, 25 P0.5, 26 P0.6, 27 P0.7, 28 P1.0, 29 P1.1, 30 P1.2, 31 P1.3, 32 P1.4, 33 P1.5, 34 P1.6, 35 P1.7, 36 VDDA, 37 P2.0, 38 P2.1, 39 P2.2, 40 P2.3, 41 P2.4, 42 P2.5, 43 P2.6, 44 P2.7, 45 VREF, 46 VDDA, 47 P3.0, 48 P3.1, 49 P3.2, 50 P3.3, 51 P3.4, 52 P3.5, 53 P3.6, 54 P3.7, 55 VSSA, 56 VCCD, 57 GND_EP

## CYBL10162-56LQXI
designator *  value CYBL10162-56LQXI  Reference: U
56-QFN, 48-MHz ARM® Cortex®-M0, 128KB Flash, 16kB SRAM, BLE 4.1, NO CAP-SENSE, 2 SCB, 4 TCPWM, NO I2S, 4 PWM , NO LCD, 1MSPS 12-BIT SAR; ki_keywords: CYPRESS PROC BLE CY8BL ARM CORTEX M0 BLUETOOTH QFN; ki_fp_filters: QFN*1EP*7x7mm*P0.4mm*; Footprint: Package_DFN_QFN:QFN-56-1EP_7x7mm_P0.4mm_EP5.6x5.6mm; Datasheet: http://www.cypress.com/documentation/datasheets/cybl10x6x-family-datasheet-programmable-radio-chip-bluetooth-low-energy; Description_: 56-QFN, 48-MHz ARM® Cortex®-M0, 128KB Flash, 16kB SRAM, BLE 4.1, NO CAP-SENSE, 2 SCB, 4 TCPWM, NO I2S, 4 PWM , NO LCD, 1MSPS 12-BIT SAR
pins: 1 VDDD, 2 XTAL32O/P6.0, 3 XTAL32I/P6.1, 4 XRES, 5 P4.0, 6 P4.1, 7 P5.0, 8 P5.1, 9 VSSD, 10 VDDR, 11 GANT1, 12 ANT, 13 GANT2, 14 VDDR, 15 VDDR, 16 XTAL24I, 17 XTAL24O, 18 VDDR, 19 P0.0, 20 P0.1, 21 P0.2, 22 P0.3, 23 VDDD, 24 P0.4, 25 P0.5, 26 P0.6, 27 P0.7, 28 P1.0, 29 P1.1, 30 P1.2, 31 P1.3, 32 P1.4, 33 P1.5, 34 P1.6, 35 P1.7, 36 VDDA, 37 P2.0, 38 P2.1, 39 P2.2, 40 P2.3, 41 P2.4, 42 P2.5, 43 P2.6, 44 P2.7, 45 VREF, 46 VDDA, 47 P3.0, 48 P3.1, 49 P3.2, 50 P3.3, 51 P3.4, 52 P3.5, 53 P3.6, 54 P3.7, 55 VSSA, 56 VCCD, 57 GND_EP

## CYBL10163-56LQXI
designator *  value CYBL10163-56LQXI  Reference: U
56-QFN, 48-MHz ARM® Cortex®-M0, 128KB Flash, 16kB SRAM, BLE 4.1, NO CAP-SENSE, 2 SCB, 4 TCPWM, 1 I2S, NO PWM , NO LCD, 1MSPS 12-BIT SAR; ki_keywords: CYPRESS PROC BLE CY8BL ARM CORTEX M0 BLUETOOTH QFN; ki_fp_filters: QFN*1EP*7x7mm*P0.4mm*; Footprint: Package_DFN_QFN:QFN-56-1EP_7x7mm_P0.4mm_EP5.6x5.6mm; Datasheet: http://www.cypress.com/documentation/datasheets/cybl10x6x-family-datasheet-programmable-radio-chip-bluetooth-low-energy; Description_: 56-QFN, 48-MHz ARM® Cortex®-M0, 128KB Flash, 16kB SRAM, BLE 4.1, NO CAP-SENSE, 2 SCB, 4 TCPWM, 1 I2S, NO PWM , NO LCD, 1MSPS 12-BIT SAR
pins: 1 VDDD, 2 XTAL32O/P6.0, 3 XTAL32I/P6.1, 4 XRES, 5 P4.0, 6 P4.1, 7 P5.0, 8 P5.1, 9 VSSD, 10 VDDR, 11 GANT1, 12 ANT, 13 GANT2, 14 VDDR, 15 VDDR, 16 XTAL24I, 17 XTAL24O, 18 VDDR, 19 P0.0, 20 P0.1, 21 P0.2, 22 P0.3, 23 VDDD, 24 P0.4, 25 P0.5, 26 P0.6, 27 P0.7, 28 P1.0, 29 P1.1, 30 P1.2, 31 P1.3, 32 P1.4, 33 P1.5, 34 P1.6, 35 P1.7, 36 VDDA, 37 P2.0, 38 P2.1, 39 P2.2, 40 P2.3, 41 P2.4, 42 P2.5, 43 P2.6, 44 P2.7, 45 VREF, 46 VDDA, 47 P3.0, 48 P3.1, 49 P3.2, 50 P3.3, 51 P3.4, 52 P3.5, 53 P3.6, 54 P3.7, 55 VSSA, 56 VCCD, 57 GND_EP

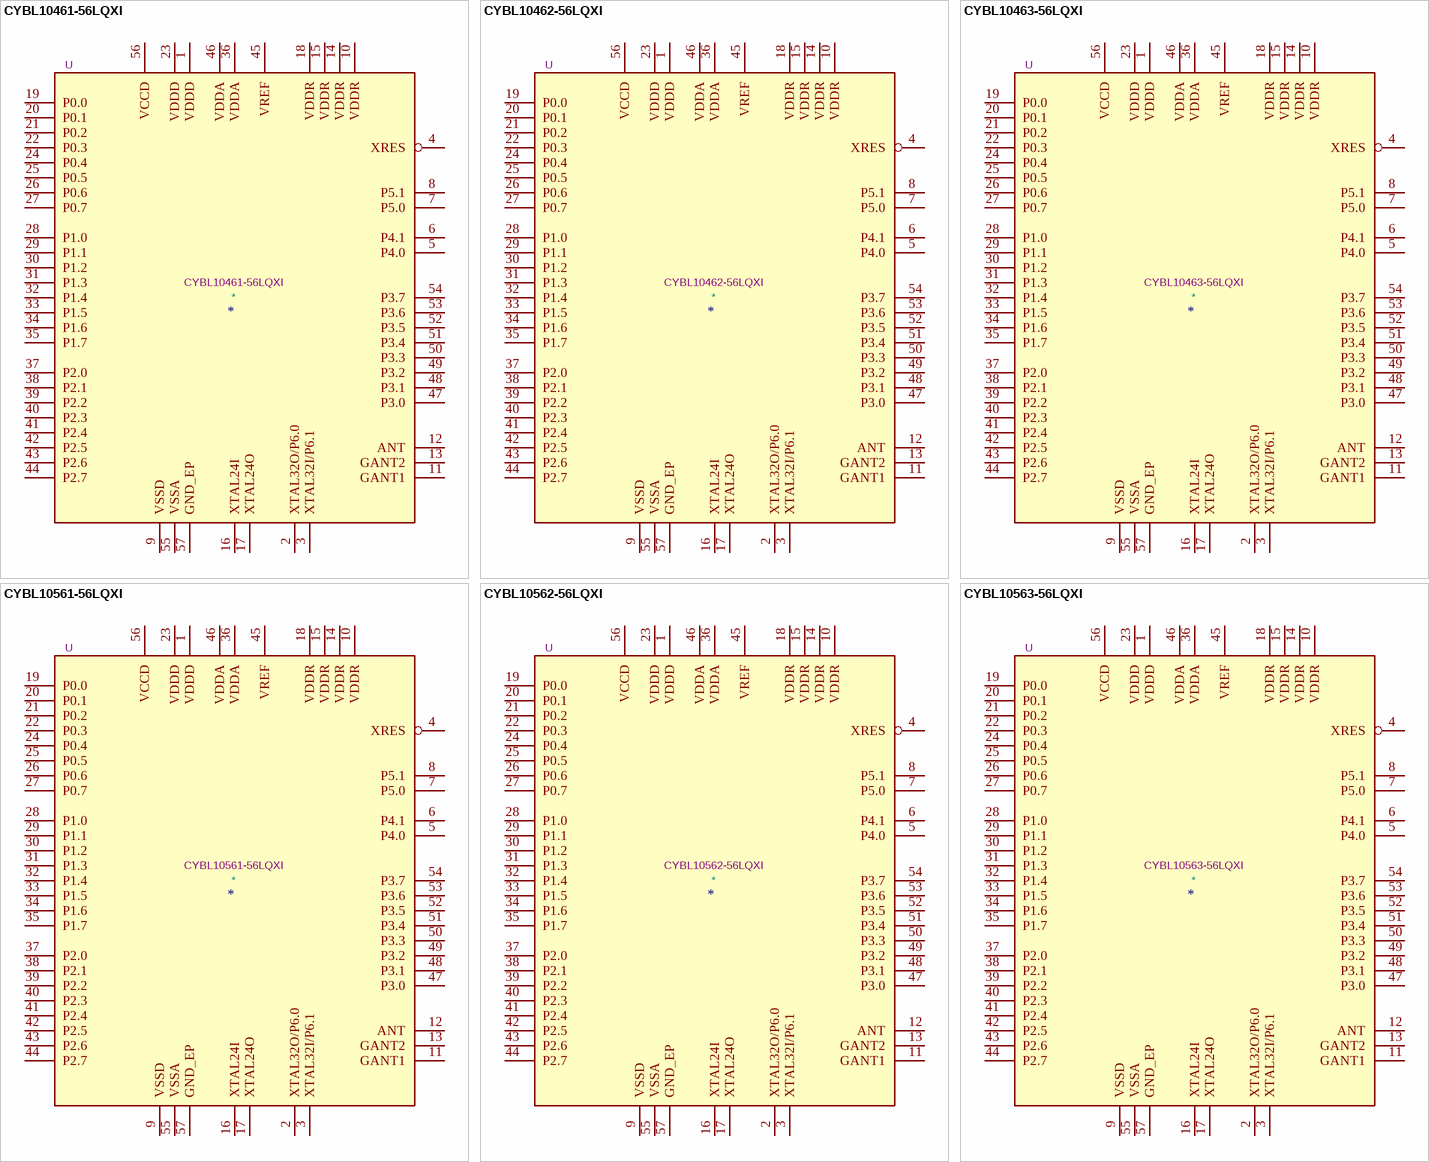
[diagram p4: symbols CYBL10461-56LQXI to CYBL10563-56LQXI]

## CYBL10461-56LQXI
designator *  value CYBL10461-56LQXI  Reference: U
56-QFN, 48-MHz ARM® Cortex®-M0, 128KB Flash, 16kB SRAM, BLE 4.1, CAP-SENSE, 2 SCB, 4 TCPWM, NO I2S, NO PWM , NO LCD, 1MSPS 12-BIT SAR; ki_keywords: CYPRESS PROC BLE CY8BL ARM CORTEX M0 BLUETOOTH QFN; ki_fp_filters: QFN*1EP*7x7mm*P0.4mm*; Footprint: Package_DFN_QFN:QFN-56-1EP_7x7mm_P0.4mm_EP5.6x5.6mm; Datasheet: http://www.cypress.com/documentation/datasheets/cybl10x6x-family-datasheet-programmable-radio-chip-bluetooth-low-energy; Description_: 56-QFN, 48-MHz ARM® Cortex®-M0, 128KB Flash, 16kB SRAM, BLE 4.1, CAP-SENSE, 2 SCB, 4 TCPWM, NO I2S, NO PWM , NO LCD, 1MSPS 12-BIT SAR
pins: 1 VDDD, 2 XTAL32O/P6.0, 3 XTAL32I/P6.1, 4 XRES, 5 P4.0, 6 P4.1, 7 P5.0, 8 P5.1, 9 VSSD, 10 VDDR, 11 GANT1, 12 ANT, 13 GANT2, 14 VDDR, 15 VDDR, 16 XTAL24I, 17 XTAL24O, 18 VDDR, 19 P0.0, 20 P0.1, 21 P0.2, 22 P0.3, 23 VDDD, 24 P0.4, 25 P0.5, 26 P0.6, 27 P0.7, 28 P1.0, 29 P1.1, 30 P1.2, 31 P1.3, 32 P1.4, 33 P1.5, 34 P1.6, 35 P1.7, 36 VDDA, 37 P2.0, 38 P2.1, 39 P2.2, 40 P2.3, 41 P2.4, 42 P2.5, 43 P2.6, 44 P2.7, 45 VREF, 46 VDDA, 47 P3.0, 48 P3.1, 49 P3.2, 50 P3.3, 51 P3.4, 52 P3.5, 53 P3.6, 54 P3.7, 55 VSSA, 56 VCCD, 57 GND_EP

## CYBL10462-56LQXI
designator *  value CYBL10462-56LQXI  Reference: U
56-QFN, 48-MHz ARM® Cortex®-M0, 128KB Flash, 16kB SRAM, BLE 4.1, CAP-SENSE, 2 SCB, 4 TCPWM, 1 I2S, NO PWM , NO LCD, 1MSPS 12-BIT SAR; ki_keywords: CYPRESS PROC BLE CY8BL ARM CORTEX M0 BLUETOOTH QFN; ki_fp_filters: QFN*1EP*7x7mm*P0.4mm*; Footprint: Package_DFN_QFN:QFN-56-1EP_7x7mm_P0.4mm_EP5.6x5.6mm; Datasheet: http://www.cypress.com/documentation/datasheets/cybl10x6x-family-datasheet-programmable-radio-chip-bluetooth-low-energy; Description_: 56-QFN, 48-MHz ARM® Cortex®-M0, 128KB Flash, 16kB SRAM, BLE 4.1, CAP-SENSE, 2 SCB, 4 TCPWM, 1 I2S, NO PWM , NO LCD, 1MSPS 12-BIT SAR
pins: 1 VDDD, 2 XTAL32O/P6.0, 3 XTAL32I/P6.1, 4 XRES, 5 P4.0, 6 P4.1, 7 P5.0, 8 P5.1, 9 VSSD, 10 VDDR, 11 GANT1, 12 ANT, 13 GANT2, 14 VDDR, 15 VDDR, 16 XTAL24I, 17 XTAL24O, 18 VDDR, 19 P0.0, 20 P0.1, 21 P0.2, 22 P0.3, 23 VDDD, 24 P0.4, 25 P0.5, 26 P0.6, 27 P0.7, 28 P1.0, 29 P1.1, 30 P1.2, 31 P1.3, 32 P1.4, 33 P1.5, 34 P1.6, 35 P1.7, 36 VDDA, 37 P2.0, 38 P2.1, 39 P2.2, 40 P2.3, 41 P2.4, 42 P2.5, 43 P2.6, 44 P2.7, 45 VREF, 46 VDDA, 47 P3.0, 48 P3.1, 49 P3.2, 50 P3.3, 51 P3.4, 52 P3.5, 53 P3.6, 54 P3.7, 55 VSSA, 56 VCCD, 57 GND_EP

## CYBL10463-56LQXI
designator *  value CYBL10463-56LQXI  Reference: U
56-QFN, 48-MHz ARM® Cortex®-M0, 128KB Flash, 16kB SRAM, BLE 4.1, CAP-SENSE, 2 SCB, 4 TCPWM, NO I2S, NO PWM , LCD, 1MSPS 12-BIT SAR; ki_keywords: CYPRESS PROC BLE CY8BL ARM CORTEX M0 BLUETOOTH QFN; ki_fp_filters: QFN*1EP*7x7mm*P0.4mm*; Footprint: Package_DFN_QFN:QFN-56-1EP_7x7mm_P0.4mm_EP5.6x5.6mm; Datasheet: http://www.cypress.com/documentation/datasheets/cybl10x6x-family-datasheet-programmable-radio-chip-bluetooth-low-energy; Description_: 56-QFN, 48-MHz ARM® Cortex®-M0, 128KB Flash, 16kB SRAM, BLE 4.1, CAP-SENSE, 2 SCB, 4 TCPWM, NO I2S, NO PWM , LCD, 1MSPS 12-BIT SAR
pins: 1 VDDD, 2 XTAL32O/P6.0, 3 XTAL32I/P6.1, 4 XRES, 5 P4.0, 6 P4.1, 7 P5.0, 8 P5.1, 9 VSSD, 10 VDDR, 11 GANT1, 12 ANT, 13 GANT2, 14 VDDR, 15 VDDR, 16 XTAL24I, 17 XTAL24O, 18 VDDR, 19 P0.0, 20 P0.1, 21 P0.2, 22 P0.3, 23 VDDD, 24 P0.4, 25 P0.5, 26 P0.6, 27 P0.7, 28 P1.0, 29 P1.1, 30 P1.2, 31 P1.3, 32 P1.4, 33 P1.5, 34 P1.6, 35 P1.7, 36 VDDA, 37 P2.0, 38 P2.1, 39 P2.2, 40 P2.3, 41 P2.4, 42 P2.5, 43 P2.6, 44 P2.7, 45 VREF, 46 VDDA, 47 P3.0, 48 P3.1, 49 P3.2, 50 P3.3, 51 P3.4, 52 P3.5, 53 P3.6, 54 P3.7, 55 VSSA, 56 VCCD, 57 GND_EP

## CYBL10561-56LQXI
designator *  value CYBL10561-56LQXI  Reference: U
56-QFN, 48-MHz ARM® Cortex®-M0, 128KB Flash, 16kB SRAM, BLE 4.1, CAP-SENSE W/ GESTURES, 2 SCB, 4 TCPWM, NO I2S, NO PWM , NO LCD, 1MSPS 12-BIT SAR; ki_keywords: CYPRESS PROC BLE CY8BL ARM CORTEX M0 BLUETOOTH QFN; ki_fp_filters: QFN*1EP*7x7mm*P0.4mm*; Footprint: Package_DFN_QFN:QFN-56-1EP_7x7mm_P0.4mm_EP5.6x5.6mm; Datasheet: http://www.cypress.com/documentation/datasheets/cybl10x6x-family-datasheet-programmable-radio-chip-bluetooth-low-energy; Description_: 56-QFN, 48-MHz ARM® Cortex®-M0, 128KB Flash, 16kB SRAM, BLE 4.1, CAP-SENSE W/ GESTURES, 2 SCB, 4 TCPWM, NO I2S, NO PWM , NO LCD, 1MSPS 12-BIT SAR
pins: 1 VDDD, 2 XTAL32O/P6.0, 3 XTAL32I/P6.1, 4 XRES, 5 P4.0, 6 P4.1, 7 P5.0, 8 P5.1, 9 VSSD, 10 VDDR, 11 GANT1, 12 ANT, 13 GANT2, 14 VDDR, 15 VDDR, 16 XTAL24I, 17 XTAL24O, 18 VDDR, 19 P0.0, 20 P0.1, 21 P0.2, 22 P0.3, 23 VDDD, 24 P0.4, 25 P0.5, 26 P0.6, 27 P0.7, 28 P1.0, 29 P1.1, 30 P1.2, 31 P1.3, 32 P1.4, 33 P1.5, 34 P1.6, 35 P1.7, 36 VDDA, 37 P2.0, 38 P2.1, 39 P2.2, 40 P2.3, 41 P2.4, 42 P2.5, 43 P2.6, 44 P2.7, 45 VREF, 46 VDDA, 47 P3.0, 48 P3.1, 49 P3.2, 50 P3.3, 51 P3.4, 52 P3.5, 53 P3.6, 54 P3.7, 55 VSSA, 56 VCCD, 57 GND_EP

## CYBL10562-56LQXI
designator *  value CYBL10562-56LQXI  Reference: U
56-QFN, 48-MHz ARM® Cortex®-M0, 128KB Flash, 16kB SRAM, BLE 4.1, CAP-SENSE W/ GESTURES, 2 SCB, 4 TCPWM, I2S, 1 PWM , NO LCD, 1MSPS 12-BIT SAR; ki_keywords: CYPRESS PROC BLE CY8BL ARM CORTEX M0 BLUETOOTH QFN; ki_fp_filters: QFN*1EP*7x7mm*P0.4mm*; Footprint: Package_DFN_QFN:QFN-56-1EP_7x7mm_P0.4mm_EP5.6x5.6mm; Datasheet: http://www.cypress.com/documentation/datasheets/cybl10x6x-family-datasheet-programmable-radio-chip-bluetooth-low-energy; Description_: 56-QFN, 48-MHz ARM® Cortex®-M0, 128KB Flash, 16kB SRAM, BLE 4.1, CAP-SENSE W/ GESTURES, 2 SCB, 4 TCPWM, I2S, 1 PWM , NO LCD, 1MSPS 12-BIT SAR
pins: 1 VDDD, 2 XTAL32O/P6.0, 3 XTAL32I/P6.1, 4 XRES, 5 P4.0, 6 P4.1, 7 P5.0, 8 P5.1, 9 VSSD, 10 VDDR, 11 GANT1, 12 ANT, 13 GANT2, 14 VDDR, 15 VDDR, 16 XTAL24I, 17 XTAL24O, 18 VDDR, 19 P0.0, 20 P0.1, 21 P0.2, 22 P0.3, 23 VDDD, 24 P0.4, 25 P0.5, 26 P0.6, 27 P0.7, 28 P1.0, 29 P1.1, 30 P1.2, 31 P1.3, 32 P1.4, 33 P1.5, 34 P1.6, 35 P1.7, 36 VDDA, 37 P2.0, 38 P2.1, 39 P2.2, 40 P2.3, 41 P2.4, 42 P2.5, 43 P2.6, 44 P2.7, 45 VREF, 46 VDDA, 47 P3.0, 48 P3.1, 49 P3.2, 50 P3.3, 51 P3.4, 52 P3.5, 53 P3.6, 54 P3.7, 55 VSSA, 56 VCCD, 57 GND_EP

## CYBL10563-56LQXI
designator *  value CYBL10563-56LQXI  Reference: U
56-QFN, 48-MHz ARM® Cortex®-M0, 128KB Flash, 16kB SRAM, BLE 4.1, CAP-SENSE W/ GESTURES, 2 SCB, 4 TCPWM, I2S, 1 PWM , LCD, 1MSPS 12-BIT SAR; ki_keywords: CYPRESS PROC BLE CY8BL ARM CORTEX M0 BLUETOOTH QFN; ki_fp_filters: QFN*1EP*7x7mm*P0.4mm*; Footprint: Package_DFN_QFN:QFN-56-1EP_7x7mm_P0.4mm_EP5.6x5.6mm; Datasheet: http://www.cypress.com/documentation/datasheets/cybl10x6x-family-datasheet-programmable-radio-chip-bluetooth-low-energy; Description_: 56-QFN, 48-MHz ARM® Cortex®-M0, 128KB Flash, 16kB SRAM, BLE 4.1, CAP-SENSE W/ GESTURES, 2 SCB, 4 TCPWM, I2S, 1 PWM , LCD, 1MSPS 12-BIT SAR
pins: 1 VDDD, 2 XTAL32O/P6.0, 3 XTAL32I/P6.1, 4 XRES, 5 P4.0, 6 P4.1, 7 P5.0, 8 P5.1, 9 VSSD, 10 VDDR, 11 GANT1, 12 ANT, 13 GANT2, 14 VDDR, 15 VDDR, 16 XTAL24I, 17 XTAL24O, 18 VDDR, 19 P0.0, 20 P0.1, 21 P0.2, 22 P0.3, 23 VDDD, 24 P0.4, 25 P0.5, 26 P0.6, 27 P0.7, 28 P1.0, 29 P1.1, 30 P1.2, 31 P1.3, 32 P1.4, 33 P1.5, 34 P1.6, 35 P1.7, 36 VDDA, 37 P2.0, 38 P2.1, 39 P2.2, 40 P2.3, 41 P2.4, 42 P2.5, 43 P2.6, 44 P2.7, 45 VREF, 46 VDDA, 47 P3.0, 48 P3.1, 49 P3.2, 50 P3.3, 51 P3.4, 52 P3.5, 53 P3.6, 54 P3.7, 55 VSSA, 56 VCCD, 57 GND_EP

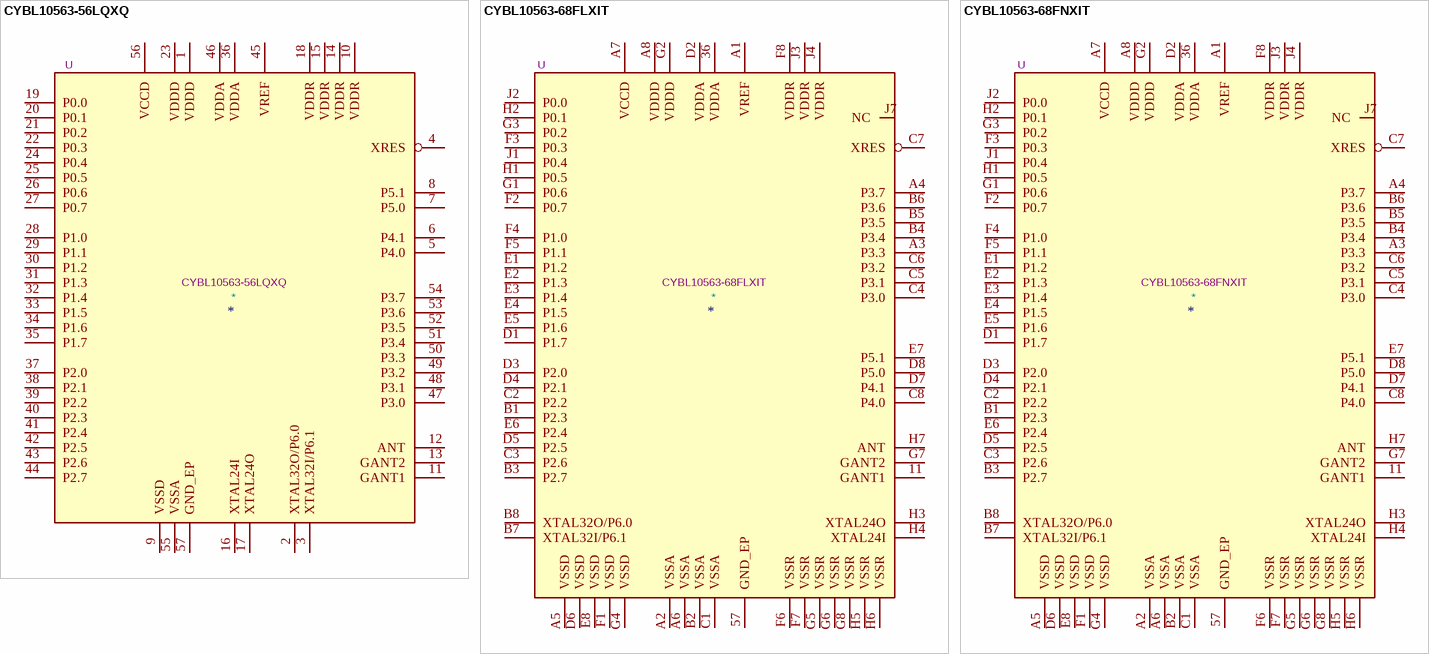
[diagram p5: symbols CYBL10563-56LQXQ to CYBL10563-68FNXIT]

## CYBL10563-56LQXQ
designator *  value CYBL10563-56LQXQ  Reference: U
56-QFN, 48-MHz ARM® Cortex®-M0, 128KB Flash, 16kB SRAM, BLE 4.1, CAP-SENSE W/ GESTURES, 2 SCB, 4 TCPWM, I2S, 1 PWM , LCD, 1MSPS 12-BIT SAR; ki_keywords: CYPRESS PROC BLE CY8BL ARM CORTEX M0 BLUETOOTH QFN; ki_fp_filters: QFN*1EP*7x7mm*P0.4mm*; Footprint: Package_DFN_QFN:QFN-56-1EP_7x7mm_P0.4mm_EP5.6x5.6mm; Datasheet: http://www.cypress.com/documentation/datasheets/cybl10x6x-family-datasheet-programmable-radio-chip-bluetooth-low-energy; Description_: 56-QFN, 48-MHz ARM® Cortex®-M0, 128KB Flash, 16kB SRAM, BLE 4.1, CAP-SENSE W/ GESTURES, 2 SCB, 4 TCPWM, I2S, 1 PWM , LCD, 1MSPS 12-BIT SAR
pins: 1 VDDD, 2 XTAL32O/P6.0, 3 XTAL32I/P6.1, 4 XRES, 5 P4.0, 6 P4.1, 7 P5.0, 8 P5.1, 9 VSSD, 10 VDDR, 11 GANT1, 12 ANT, 13 GANT2, 14 VDDR, 15 VDDR, 16 XTAL24I, 17 XTAL24O, 18 VDDR, 19 P0.0, 20 P0.1, 21 P0.2, 22 P0.3, 23 VDDD, 24 P0.4, 25 P0.5, 26 P0.6, 27 P0.7, 28 P1.0, 29 P1.1, 30 P1.2, 31 P1.3, 32 P1.4, 33 P1.5, 34 P1.6, 35 P1.7, 36 VDDA, 37 P2.0, 38 P2.1, 39 P2.2, 40 P2.3, 41 P2.4, 42 P2.5, 43 P2.6, 44 P2.7, 45 VREF, 46 VDDA, 47 P3.0, 48 P3.1, 49 P3.2, 50 P3.3, 51 P3.4, 52 P3.5, 53 P3.6, 54 P3.7, 55 VSSA, 56 VCCD, 57 GND_EP

## CYBL10563-68FLXIT
designator *  value CYBL10563-68FLXIT  Reference: U
68-WLCSP, 48-MHz ARM® Cortex®-M0, 128KB Flash, 16kB SRAM, BLE 4.1, CAP-SENSE W/ GESTURES, 2 SCB, 4 TCPWM, I2S, 1 PWM , LCD, 1MSPS 12-BIT SAR; ki_keywords: CYPRESS PROC BLE CY8BL ARM CORTEX M0 BLUETOOTH WLCSP; ki_fp_filters: WLCSP*; Datasheet: http://www.cypress.com/documentation/datasheets/cybl10x6x-family-datasheet-programmable-radio-chip-bluetooth-low-energy; Description_: 68-WLCSP, 48-MHz ARM® Cortex®-M0, 128KB Flash, 16kB SRAM, BLE 4.1, CAP-SENSE W/ GESTURES, 2 SCB, 4 TCPWM, I2S, 1 PWM , LCD, 1MSPS 12-BIT SAR
pins: 11 GANT1, 36 VDDA, 57 GND_EP, A1 VREF, A2 VSSA, A3 P3.3, A4 P3.7, A5 VSSD, A6 VSSA, A7 VCCD, A8 VDDD, B1 P2.3, B2 VSSA, B3 P2.7, B4 P3.4, B5 P3.5, B6 P3.6, B7 XTAL32I/P6.1, B8 XTAL32O/P6.0, C1 VSSA, C2 P2.2, C3 P2.6, C4 P3.0, C5 P3.1, C6 P3.2, C7 XRES, C8 P4.0, D1 P1.7, D2 VDDA, D3 P2.0, D4 P2.1, D5 P2.5, D6 VSSD, D7 P4.1, D8 P5.0, E1 P1.2, E2 P1.3, E3 P1.4, E4 P1.5, E5 P1.6, E6 P2.4, E7 P5.1, E8 VSSD, F1 VSSD, F2 P0.7, F3 P0.3, F4 P1.0, F5 P1.1, F6 VSSR, F7 VSSR, F8 VDDR, G1 P0.6, G2 VDDD, G3 P0.2, G4 VSSD, G5 VSSR, G6 VSSR, G7 GANT2, G8 VSSR, H1 P0.5, H2 P0.1, H3 XTAL24O, H4 XTAL24I, H5 VSSR, H6 VSSR, H7 ANT, J1 P0.4, J2 P0.0, J3 VDDR, J4 VDDR, J7 NC

## CYBL10563-68FNXIT
designator *  value CYBL10563-68FNXIT  Reference: U
68-WLCSP, 48-MHz ARM® Cortex®-M0, 128KB Flash, 16kB SRAM, BLE 4.1, CAP-SENSE W/ GESTURES, 2 SCB, 4 TCPWM, I2S, 1 PWM , LCD, 1MSPS 12-BIT SAR; ki_keywords: CYPRESS PROC BLE CY8BL ARM CORTEX M0 BLUETOOTH WLCSP; ki_fp_filters: WLCSP*; Datasheet: http://www.cypress.com/documentation/datasheets/cybl10x6x-family-datasheet-programmable-radio-chip-bluetooth-low-energy; Description_: 68-WLCSP, 48-MHz ARM® Cortex®-M0, 128KB Flash, 16kB SRAM, BLE 4.1, CAP-SENSE W/ GESTURES, 2 SCB, 4 TCPWM, I2S, 1 PWM , LCD, 1MSPS 12-BIT SAR
pins: 11 GANT1, 36 VDDA, 57 GND_EP, A1 VREF, A2 VSSA, A3 P3.3, A4 P3.7, A5 VSSD, A6 VSSA, A7 VCCD, A8 VDDD, B1 P2.3, B2 VSSA, B3 P2.7, B4 P3.4, B5 P3.5, B6 P3.6, B7 XTAL32I/P6.1, B8 XTAL32O/P6.0, C1 VSSA, C2 P2.2, C3 P2.6, C4 P3.0, C5 P3.1, C6 P3.2, C7 XRES, C8 P4.0, D1 P1.7, D2 VDDA, D3 P2.0, D4 P2.1, D5 P2.5, D6 VSSD, D7 P4.1, D8 P5.0, E1 P1.2, E2 P1.3, E3 P1.4, E4 P1.5, E5 P1.6, E6 P2.4, E7 P5.1, E8 VSSD, F1 VSSD, F2 P0.7, F3 P0.3, F4 P1.0, F5 P1.1, F6 VSSR, F7 VSSR, F8 VDDR, G1 P0.6, G2 VDDD, G3 P0.2, G4 VSSD, G5 VSSR, G6 VSSR, G7 GANT2, G8 VSSR, H1 P0.5, H2 P0.1, H3 XTAL24O, H4 XTAL24I, H5 VSSR, H6 VSSR, H7 ANT, J1 P0.4, J2 P0.0, J3 VDDR, J4 VDDR, J7 NC